# EAGLE library part SSW-106-21-L-S (library C3-Connector)
SAMTEC 6x1 THROUGH-HOLE 100 mil .025" SQ POST SOCKET 6 Pins, 1 Row, Solder Tail, Low Force, 10µ" Gold on Contact SSW Series Catalog Page (EN) <http://www.samtec.com/documents/webfiles/pdf/SSW_TH.PDF>
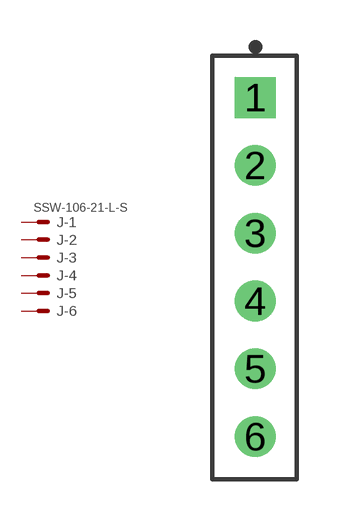
[diagram p7: symbol with the pads of SAMTEC_SSW-106-21-L-S; footprint SAMTEC_SSW-106-21-L-S]

Designator prefix J; gates -1=MV -2=M -3=M -4=M -5=M -6=M

## SSW-106-21-L-S  [SAMTEC_SSW-106-21-L-S]
1  -1:S  pas
2  -2:S  pas
3  -3:S  pas
4  -4:S  pas
5  -5:S  pas
6  -6:S  pas

## Footprint SAMTEC_SSW-106-21-L-S (pad centres in mm)
SAMTEC 6x1 THROUGH-HOLE .025" SQ POST SOCKET 6 Pins, 1 Row, Solder Tail, Low Force, 10µ" Gold on Contact SSW Series Catalog Page (EN) <http://www.samtec.com/documents/webfiles/pdf/SSW_TH.PDF> SSW Assembly Drawing <http://www.samtec.com/documents/webfiles/cpdf/SSW-1XX-XX-XXX-X-XX-XXX-XX-MKT.pdf>
drill 1.016 square: 1 0,6.35
drill 1.016: 2 0,3.81; 3 0,1.27; 4 0,-1.27; 5 0,-3.81; 6 0,-6.35